# Altium schematic symbol library SNAKE_FYP.SchLib: 34 symbols
Pins are listed as number, name and electrical type; pins without a type are passive.

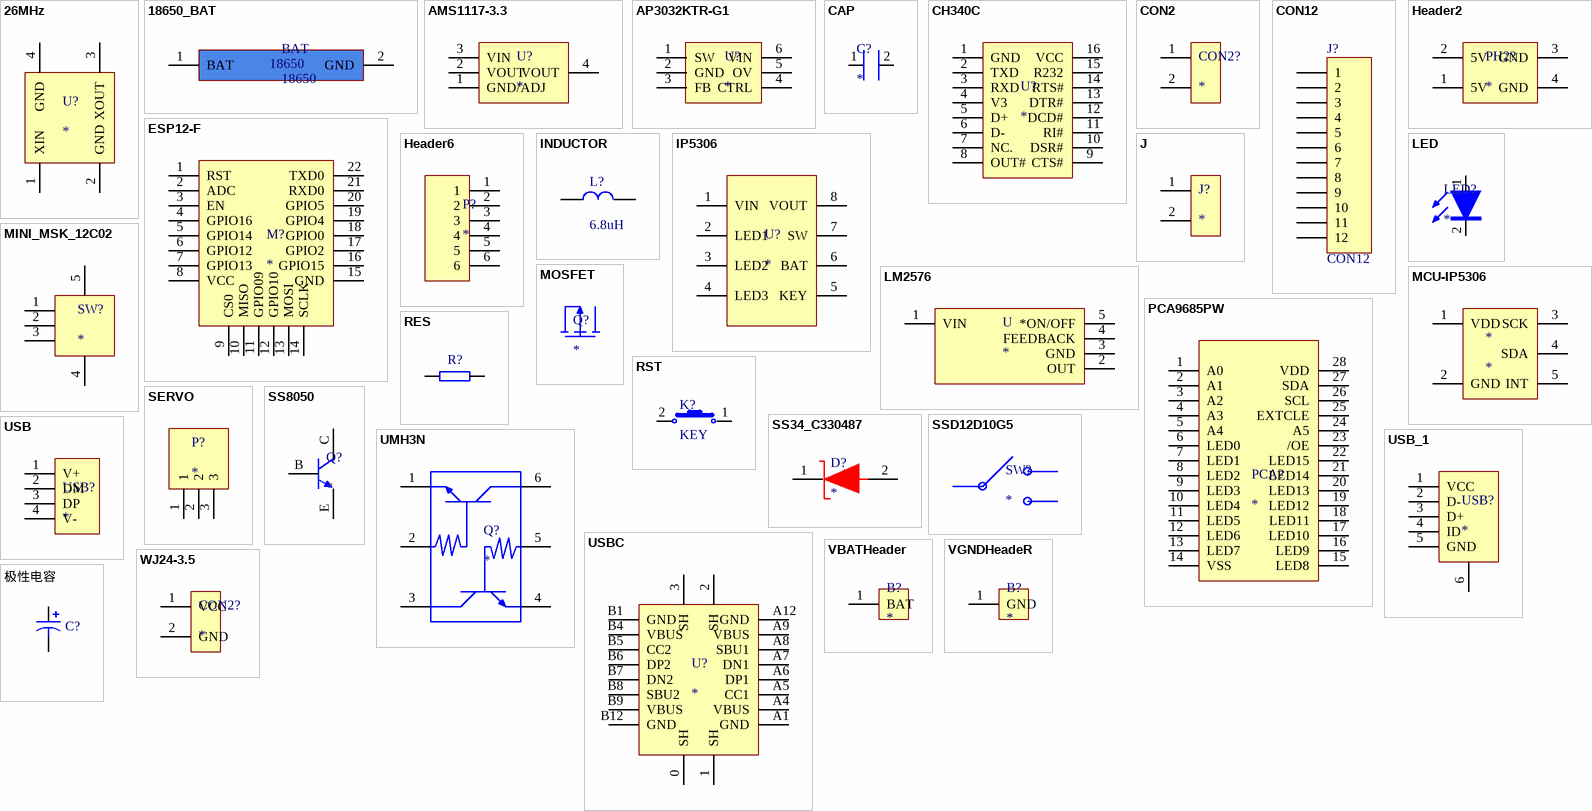
[diagram p0: symbols 26MHz to 极性电容]

## 26MHz
designator U?
pins: 1 XIN, 2 GND, 3 XOUT, 4 GND

## 18650_BAT
designator BAT, comment 18650
pins: 1 BAT, 2 GND

## AMS1117-3.3
designator U?
pins: 1 GND/ADJ, 2 VOUT, 3 VIN, 4 VOUT

## AP3032KTR-G1
designator U?
pins: 1 SW, 2 GND, 3 FB, 4 CTRL, 5 OV, 6 VIN

## CAP
designator C?
电容
pins: 1, 2

## CH340C
designator U?
pins: 1 GND, 2 TXD, 3 RXD, 4 V3, 5 D+, 6 D-, 7 NC., 8 OUT#, 9 CTS#, 10 DSR#, 11 RI#, 12 DCD#, 13 DTR#, 14 RTS#, 15 R232, 16 VCC

## CON2
designator CON2?
pins: 1 *, 2 *

## CON12
designator J?
Connector
footprint HDR2X6 (Connector; Header; 6x2 Position)
pins: 1, 2, 3, 4, 5, 6, 7, 8, 9, 10, 11, 12
2 alternate drawings of the same symbol

## ESP12-F
designator M?
pins: 1 RST, 2 ADC, 3 EN, 4 GPIO16, 5 GPIO14, 6 GPIO12, 7 GPIO13, 8 VCC, 9 CS0, 10 MISO, 11 GPIO09, 12 GPIO10, 13 MOSI, 14 SCLK, 15 GND, 16 GPIO15, 17 GPIO2, 18 GPIO0, 19 GPIO4, 20 GPIO5, 21 RXD0, 22 TXD0

## Header2
designator PH2?
pins: 1 5V, 2 5V, 3 GND, 4 GND

## Header6
designator P?
pins: 1, 2, 3, 4, 5, 6

## INDUCTOR
designator L?, comment 6.8uH
电感
footprint 0805_Res
footprint CDRH3D16_4.2*1.8
footprint 3528电感
footprint 0603_Res
footprint CD75_7.8*5mm
footprint CDRH5D28_6*2.8mm
footprint CD32_3.5*3.0*2.3mm
footprint CDRH4D18_5*2MM
pins: 1, 2

## IP5306
designator U?
升压、降压和锂电池充电管理芯片
pins: 1 VIN, 2 LED1, 3 LED2, 4 LED3, 5 KEY, 6 BAT, 7 SW, 8 VOUT

## J
designator J?
pins: 1 *, 2 *

## LED
designator LED?
pins: 1, 2

## LM2576
designator U
pins: 1 VIN, 2 OUT, 3 GND, 4 FEEDBACK, 5 *ON/OFF

## MCU-IP5306
designator *
pins: 1 VDD, 2 GND, 3 SCK, 4 SDA, 5 INT

## MINI_MSK_12C02
designator SW?
pins: 1, 2, 3, 4, 5

## MOSFET
designator Q?

## PCA9685PW
designator PCA?
pins: 1 A0, 2 A1, 3 A2, 4 A3, 5 A4, 6 LED0, 7 LED1, 8 LED2, 9 LED3, 10 LED4, 11 LED5, 12 LED6, 13 LED7, 14 VSS, 15 LED8, 16 LED9, 17 LED10, 18 LED11, 19 LED12, 20 LED13, 21 LED14, 22 LED15, 23 /OE, 24 A5, 25 EXTCLE, 26 SCL, 27 SDA, 28 VDD

## RES
designator R?
电阻
footprint 0402R (Footprint not found)
pins: 1, 2

## RST
designator K?, comment KEY
按键
pins: 1, 2

## SERVO
designator P?
footprint SERVOHEADER
pins: 1, 2, 3

## SS34_C330487
designator D?
pins: 1, 2

## SS8050
designator Q?
pins: B, C, E

## SSD12D10G5
designator SW?

## UMH3N
designator Q?
pins: 1, 2, 3, 4, 5, 6

## USB
designator USB?
pins: 1 V+, 2 DM, 3 DP, 4 V-

## USB_1
designator USB?
pins: 1 VCC, 2 D-, 3 D+, 4 ID, 5 GND, 6 GND

## USBC
designator U?
pins: 0 SH, 1 SH, 2 SH, 3 SH, A1 GND, A4 VBUS, A5 CC1, A6 DP1, A7 DN1, A8 SBU1, A9 VBUS, A12 GND, B1 GND, B4 VBUS, B5 CC2, B6 DP2, B7 DN2, B8 SBU2, B9 VBUS, B12 GND

## VBATHeader
designator B?
pins: 1 BAT

## VGNDHeadeR
designator B?
pins: 1 GND

## WJ24-3.5
designator CON2?
pins: 1 VCC, 2 GND

## 极性电容
designator C?
极性电容
footprint B型钽电容_3528_21 (Molded Capacitor, 2-Leads, Body 3.5x2.8mm, IPC Medium Density)
pins: 1, 2